# Altium footprint library Cubesat_lib.PcbLib: 37 footprints (part 3 of 3)
Each footprint in its own frame and in the unit in brackets; x right, y up, seen from the top. Pads: shape width x height; smd on the part's side, far side on the other; paste and mask are expansions set on the pad; w line width, h text height; cw(c..) or ccw(c..) is an arc to the next point about the centre after c.
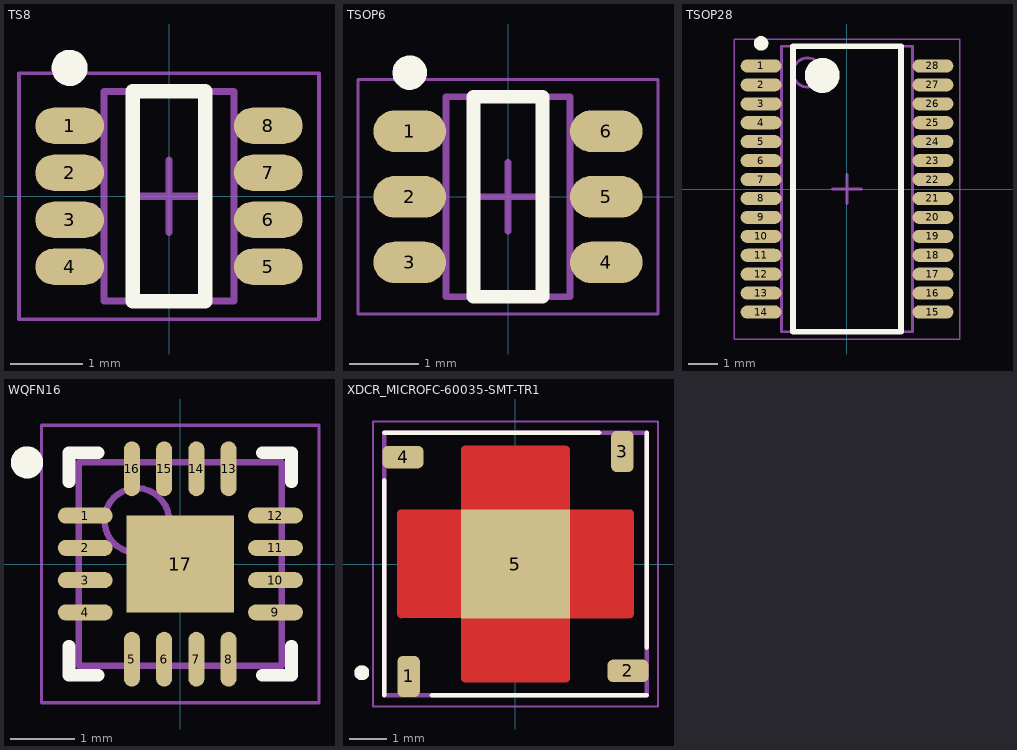
[diagram p2: the footprints below, top view; thin cyan lines are the x and y axes]

## TS8 [mm] "TSOP, 8-Leads, Body 2.90x1.63mm, Pitch 0.65mm, IPC Medium Density"
height 1
pads (8):
  oval 0.95x0.5 smd: 1(-1.375,0.975) 2(-1.375,0.325) 3(-1.375,-0.325) 4(-1.375,-0.975) 5(1.375,-0.975) 6(1.375,-0.325) 7(1.375,0.325) 8(1.375,0.975)
Top Overlay:
  circle w0.25: c-1.375,1.775 r0.125
  lines w0.2: -0.5,-1.45 -0.5,1.45 0.5,1.45 0.5,-1.45 -0.5,-1.45
Mechanical 13:
  lines w0.1: -0.9,-1.45 -0.9,1.45 0.9,1.45 0.9,-1.45 -0.9,-1.45
Mechanical 15:
  lines w0.05: -2.075,-1.7 -2.075,1.7 2.075,1.7 2.075,-1.7 -2.075,-1.7
  lines w0.1: -0.5,0 0.5,0 ; 0,-0.5 0,0.5
3D body "TSOP65P280X100-8N.step": height 1, standoff 0, extent -1.4,-1.45 1.4,1.45

## TSOP6 [mm] "TSOP, 6-Leads, Body 2.90x1.63mm, Pitch 0.95mm, IPC Medium Density"
height 1.1
pads (6):
  oval 1.05x0.6 smd: 1(-1.425,0.95) 2(-1.425,0) 3(-1.425,-0.95) 4(1.425,-0.95) 5(1.425,0) 6(1.425,0.95)
Top Overlay:
  circle w0.25: c-1.425,1.8 r0.125
  lines w0.2: -0.5,-1.45 0.5,-1.45 0.5,1.45 -0.5,1.45 -0.5,-1.45
Mechanical 13:
  lines w0.1: -0.9,-1.45 0.9,-1.45 0.9,1.45 -0.9,1.45 -0.9,-1.45
Mechanical 15:
  lines w0.05: -2.175,-1.7 2.175,-1.7 2.175,1.7 -2.175,1.7 -2.175,-1.7
  lines w0.1: -0.5,0 0.5,0 ; 0,-0.5 0,0.5
3D body "TSOP95P300X110-6N.step": height 1.1, standoff 0, extent -1.5,-1.45 1.5,1.45

## TSOP28 [mm] "TSOP, 28-Leads, Body 9.70x4.40mm, Pitch 0.65mm, IPC Medium Density"
height 1.2
pads (28):
  oval 1.4x0.45 smd: 1(-2.95,4.225) 2(-2.95,3.575) 3(-2.95,2.925) 4(-2.95,2.275) 5(-2.95,1.625) 6(-2.95,0.975) 7(-2.95,0.325) 8(-2.95,-0.325) 9(-2.95,-0.975) 10(-2.95,-1.625) 11(-2.95,-2.275) 12(-2.95,-2.925) 13(-2.95,-3.575) 14(-2.95,-4.225) 15(2.95,-4.225) 16(2.95,-3.575) 17(2.95,-2.925) 18(2.95,-2.275) 19(2.95,-1.625) 20(2.95,-0.975) 21(2.95,-0.325) 22(2.95,0.325) 23(2.95,0.975) 24(2.95,1.625) 25(2.95,2.275) 26(2.95,2.925) 27(2.95,3.575) 28(2.95,4.225)
Top Overlay:
  circle w0.6: c-0.85,3.9 r0.3
  circle w0.25: c-2.95,5 r0.125
  lines w0.2: -1.85,-4.9 1.85,-4.9 1.85,4.9 -1.85,4.9 -1.85,-4.9
Mechanical 13:
  circle w0.1: c-1.35,4 r0.5
  lines w0.1: -2.25,-4.9 2.25,-4.9 2.25,4.9 -2.25,4.9 -2.25,-4.9
Mechanical 15:
  lines w0.05: -3.875,-5.15 3.875,-5.15 3.875,5.15 -3.875,5.15 -3.875,-5.15
  lines w0.1: -0.5,0 0.5,0 ; 0,-0.5 0,0.5
3D body "TSOP65P640X120-28N.step": height 1.2, standoff 0, extent -3.2,-4.9 3.2,4.9

## WQFN16 [mm] "QFN, 16-Leads, Body 3.15x3.15mm, Pitch 0.50mm, Thermal Pad 1.66x1.50mm, IPC Medium Density"
height 0.8
pads (17):
  oval 0.85x0.25 smd: 1(-1.475,0.75) 2(-1.475,0.25) 3(-1.475,-0.25) 4(-1.475,-0.75) 9(1.475,-0.75) 10(1.475,-0.25) 11(1.475,0.25) 12(1.475,0.75)
  oval 0.25x0.85 smd: 5(-0.75,-1.475) 6(-0.25,-1.475) 7(0.25,-1.475) 8(0.75,-1.475) 13(0.75,1.475) 14(0.25,1.475) 15(-0.25,1.475) 16(-0.75,1.475)
  rect 1.66x1.5 smd: 17(0,0)
Top Overlay:
  circle w0.25: c-2.375,1.575 r0.125
  lines w0.2: -1.725,-1.275 -1.725,-1.725 -1.275,-1.725 ; -1.725,1.275 -1.725,1.725 -1.275,1.725 ; 1.275,-1.725 1.725,-1.725 1.725,-1.275 ; 1.275,1.725 1.725,1.725 1.725,1.275
Mechanical 13:
  circle w0.1: c-0.675,0.675 r0.5
  lines w0.1: -1.575,-1.575 -1.575,1.575 1.575,1.575 1.575,-1.575 -1.575,-1.575
Mechanical 15:
  lines w0.05: -2.15,-2.15 -2.15,2.15 2.15,2.15 2.15,-2.15 -2.15,-2.15
  lines w0.1: -0.5,0 0.5,0 ; 0,-0.5 0,0.5
3D body "QFN50P315X315X80_HS-17N.step": height 0.8, standoff 0, extent -1.625,-1.625 1.625,1.625

## XDCR_MICROFC-60035-SMT-TR1 [mm]
pads (5):
  rrect50% 0.6x1.1 smd: 1(-2.85,-3) 3(2.85,3)
  rrect50% 1.1x0.6 smd: 2(3,-2.85) 4(-3,2.85)
  rect 2.9x2.9 smd paste-2 mask+0: 5(0,0)
Top Layer:
  region: 255 vertices and 0 holes, not listed, extent -3.15,-3.15 3.15,3.15
Top Overlay:
  circle w0.2: c-4.1,-2.9 r0.1
  lines w0.127: -3.5,-3.5 -3.5,2.23 ; -3.5,3.5 2.23,3.5 ; -2.23,-3.5 3.5,-3.5 ; 3.5,-2.23 3.5,3.5
Top Paste:
  region: 1.025,1.7 -1.025,1.7 -1.025,2.9 1.025,2.9
  region: 1.025,-2.9 -1.025,-2.9 -1.025,-1.7 1.025,-1.7
  region: -1.275,-0.6 -3.325,-0.6 -3.325,0.6 -1.275,0.6
  region: 3.325,-0.6 1.275,-0.6 1.275,0.6 3.325,0.6
  region: 1.025,-1.025 -1.025,-1.025 -1.025,1.025 1.025,1.025
Top Solder:
  drawing of 1 lines, arcs and shapes, not listed
Mechanical 13:
  circle w0.2: c-4.1,-2.9 r0.1
  lines w0.127: -3.5,-3.5 -3.5,3.5 3.5,3.5 3.5,-3.5 -3.5,-3.5
Mechanical 15:
  lines w0.05: -3.8,-3.8 -3.8,3.8 3.8,3.8 3.8,-3.8 -3.8,-3.8
3D body "MICROFC-60035-SMT-TR1--3DModel-STEP-56544.STEP": height 0.68, standoff -0.02, extent -3.5,-3.5 3.5,3.5